# Altium footprint library parts.PCBLIB: 93 footprints (part 4 of 6)
Each footprint in its own frame and in the unit in brackets; x right, y up, seen from the top. Pads: shape width x height; smd on the part's side, far side on the other; paste and mask are expansions set on the pad; w line width, h text height; cw(c..) or ccw(c..) is an arc to the next point about the centre after c.
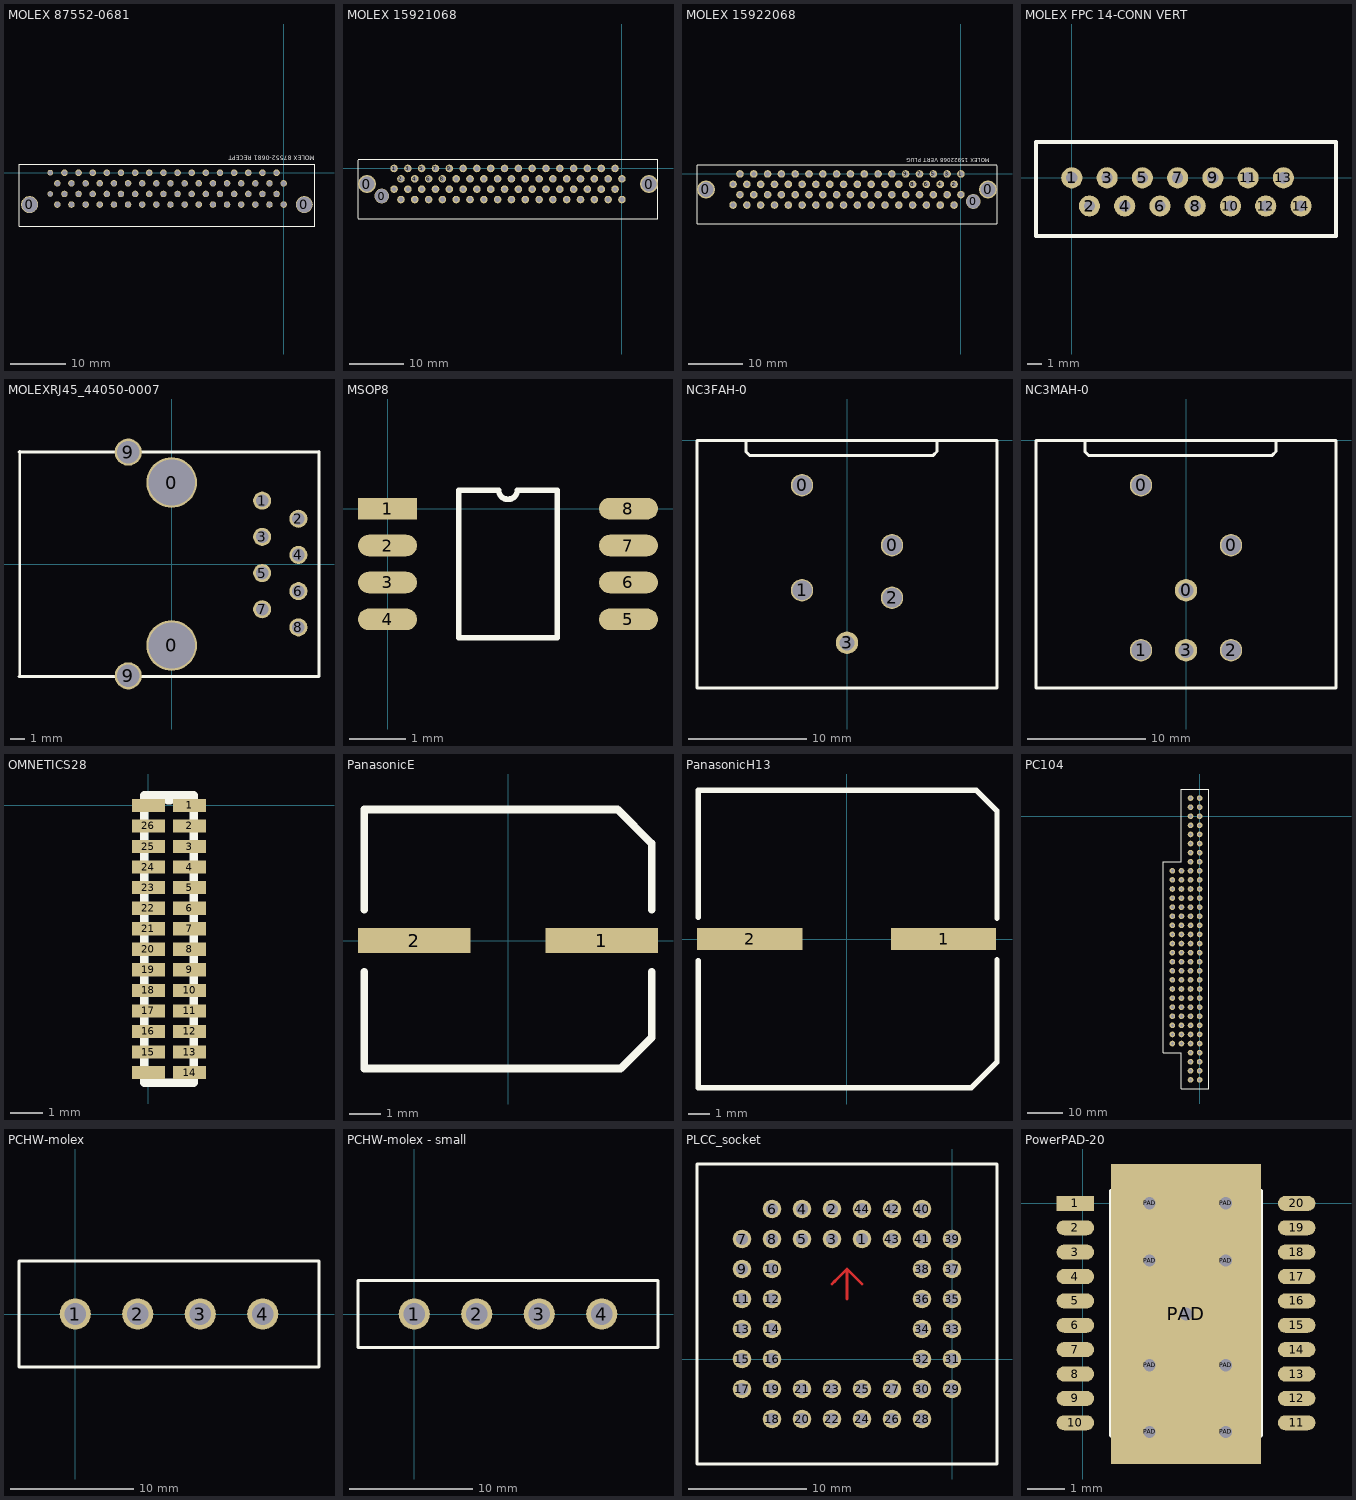
[diagram p3: the footprints below, top view; thin cyan lines are the x and y axes]

## MOLEX 87552-0681 [mil] "Moles 68-pin EBBI 50 mil right angle recepticle connector"
pads (70):
  round 120 hole 110: 0(-1796,-225) 0(146,-225)
  round 40 hole 35: 1(-1650,0) 35(-1650,-150)
  round 46 hole 35: 2(-1600,-75) 3(-1550,0) 4(-1500,-75) 5(-1450,0) 6(-1400,-75) 7(-1350,0) 8(-1300,-75) 9(-1250,0) 10(-1200,-75) 11(-1150,0) 12(-1100,-75) 13(-1050,0) 14(-1000,-75) 15(-950,0) 16(-900,-75) 17(-850,0) 18(-800,-75) 19(-750,0) 20(-700,-75) 21(-650,0) 22(-600,-75) 23(-550,0) 24(-500,-75) 25(-450,0) 26(-400,-75) 27(-350,0) 28(-300,-75) 29(-250,0) 30(-200,-75) 31(-150,0) 32(-100,-75) 33(-50,0) 34(0,-75) 36(-1600,-225) 37(-1550,-150) 38(-1500,-225) 39(-1450,-150) 40(-1400,-225) 41(-1350,-150) 42(-1300,-225) 43(-1250,-150) 44(-1200,-225) 45(-1150,-150) 46(-1100,-225) 47(-1050,-150) 48(-1000,-225) 49(-950,-150) 50(-900,-225) 51(-850,-150) 52(-800,-225) 53(-750,-150) 54(-700,-225) 55(-650,-150) 56(-600,-225) 57(-550,-150) 58(-500,-225) 59(-450,-150) 60(-400,-225) 61(-350,-150) 62(-300,-225) 63(-250,-150) 64(-200,-225) 65(-150,-150) 66(-100,-225) 67(-50,-150) 68(0,-225)
TopOverlay:
  lines w8: -1871,-380.12 221,-380.12 221,60 -1871,60 -1871,-380.12
  text "MOLEX 87552-0681 RECEPT" at 220,120 h30

## MOLEX 15921068 [mil]
pads (71):
  round 130 hole 110: 0(-1846,-112.5) 0(196,-112.5)
  round 106.3 hole 98.43: 0(-1739.37,-199.41)
  round 55 hole 35: 1(-1650,0) 2(-1600,-75) 3(-1550,0) 4(-1500,-75) 5(-1450,0) 6(-1400,-75) 7(-1350,0) 8(-1300,-75) 9(-1250,0) 10(-1200,-75) 11(-1150,0) 12(-1100,-75) 13(-1050,0) 14(-1000,-75) 15(-950,0) 16(-900,-75) 17(-850,0) 18(-800,-75) 19(-750,0) 20(-700,-75) 21(-650,0) 22(-600,-75) 23(-550,0) 24(-500,-75) 25(-450,0) 26(-400,-75) 27(-350,0) 28(-300,-75) 29(-250,0) 30(-200,-75) 31(-150,0) 32(-100,-75) 33(-50,0) 34(0,-75) 35(-1650,-150) 36(-1600,-225) 37(-1550,-150) 38(-1500,-225) 39(-1450,-150) 40(-1400,-225) 41(-1350,-150) 42(-1300,-225) 43(-1250,-150) 44(-1200,-225) 45(-1150,-150) 46(-1100,-225) 47(-1050,-150) 48(-1000,-225) 49(-950,-150) 50(-900,-225) 51(-850,-150) 52(-800,-225) 53(-750,-150) 54(-700,-225) 55(-650,-150) 56(-600,-225) 57(-550,-150) 58(-500,-225) 59(-450,-150) 60(-400,-225) 61(-350,-150) 62(-300,-225) 63(-250,-150) 64(-200,-225) 65(-150,-150) 66(-100,-225) 67(-50,-150) 68(0,-225)
TopOverlay:
  lines w8: -1911,-360 -1911,60 ; -1909.84,-362.2 259.45,-362.2 ; -1909.84,65 260.61,65 ; 260.08,-360 260.08,62.17

## MOLEX 15922068 [mil]
pads (71):
  round 130 hole 110: 0(-1846,-112.5) 0(196,-112.5)
  round 106.3 hole 98.43: 0(89.37,-199.41)
  round 55 hole 35: 1(0,0) 2(-50,-75) 3(-100,0) 4(-150,-75) 5(-200,0) 6(-250,-75) 7(-300,0) 8(-350,-75) 9(-400,0) 10(-450,-75) 11(-500,0) 12(-550,-75) 13(-600,0) 14(-650,-75) 15(-700,0) 16(-750,-75) 17(-800,0) 18(-850,-75) 19(-900,0) 20(-950,-75) 21(-1000,0) 22(-1050,-75) 23(-1100,0) 24(-1150,-75) 25(-1200,0) 26(-1250,-75) 27(-1300,0) 28(-1350,-75) 29(-1400,0) 30(-1450,-75) 31(-1500,0) 32(-1550,-75) 33(-1600,0) 34(-1650,-75) 35(0,-150) 36(-50,-225) 37(-100,-150) 38(-150,-225) 39(-200,-150) 40(-250,-225) 41(-300,-150) 42(-350,-225) 43(-400,-150) 44(-450,-225) 45(-500,-150) 46(-550,-225) 47(-600,-150) 48(-650,-225) 49(-700,-150) 50(-750,-225) 51(-800,-150) 52(-850,-225) 53(-900,-150) 54(-950,-225) 55(-1000,-150) 56(-1050,-225) 57(-1100,-150) 58(-1150,-225) 59(-1200,-150) 60(-1250,-225) 61(-1300,-150) 62(-1350,-225) 63(-1400,-150) 64(-1450,-225) 65(-1500,-150) 66(-1550,-225) 67(-1600,-150) 68(-1650,-225)
TopOverlay:
  lines w8: -1910.61,65 259.84,65 ; -1910.08,-360 -1910.08,62.16 ; -1909.45,-362.2 259.84,-362.2 ; 261,-360 261,60
  text "MOLEX 15922068 VERT PLUG" at 208.66,114.17 h30

## MOLEX FPC 14-CONN VERT [mm] "Molex FPC connector, ZIF, vertical, 1.25 mm pitch, 14 connector"
pads (14):
  round 1.5 hole 0.8: 1(0,0) 2(1.25,-2) 3(2.5,0) 4(3.75,-2) 5(5,0) 6(6.25,-2) 7(7.5,0) 8(8.75,-2) 9(10,0) 10(11.25,-2) 11(12.5,0) 12(13.75,-2) 13(15,0) 14(16.25,-2)
TopOverlay:
  lines w0.254: -2.54,-4.127 -2.54,2.54 -2.222,2.54 18.732,2.54 18.732,-4.127 -2.54,-4.127

## MOLEXRJ45_44050-0007 [mil]
pads (12):
  round 140 hole 128: 0(0,-225) 0(0,225)
  round 50 hole 35: 1(250,175) 2(350,125) 3(250,75) 4(350,25) 5(250,-25) 6(350,-75) 7(250,-125) 8(350,-175)
  round 75 hole 62: 9(-120,-309) 9(-120,309)
TopOverlay:
  lines w8: -422,-311 407,-311 407,311 ; -422,310 407,310 ; -420,-311 -420,311

## MSOP8 [mm]
pads (8):
  rect 1.04x0.38 smd: 1(0,0)
  oval 1.04x0.38 smd: 2(0,-0.65) 3(0,-1.3) 4(0,-1.95) 5(4.24,-1.95) 6(4.24,-1.3) 7(4.24,-0.65) 8(4.24,0)
TopOverlay:
  lines w0.1: 1.255,-2.275 2.985,-2.275 2.985,0.325 2.282,0.325 cw(c2.12,0.325) 1.957,0.325 1.255,0.325 1.255,-2.275

## NC3FAH-0 [mil] "Neutrik 3 pole female XLR receptacle, plastic housing, horizontal PCB mount."
pads (5):
  round 75 hole 65: 0(-150,-150) 0(150,-350) 1(-150,-500) 2(150,-525)
  round 75 hole 50: 3(0,-675)
TopOverlay:
  lines w10: -337.5,0 -337.5,-37.5 -325,-50 287.5,-50 300,-37.5 300,0 ; -500,-825 -500,0 500,0 500,-825 -500,-825

## NC3MAH-0 [mil] "Neutrik 3 pole male XLR receptacle, plastic housing, horizontal PCB mount."
pads (6):
  round 75 hole 65: 0(-150,-150) 0(150,-350) 1(-150,-700) 2(150,-700)
  round 75 hole 50: 0(0,-500) 3(0,-700)
TopOverlay:
  lines w10: -337.5,0 -337.5,-37.5 -325,-50 287.5,-50 300,-37.5 300,0 ; -500,-825 500,-825 500,0 -500,0 -500,-825

## OMNETICS28 [mil]
pads (28):
  rect 40x16 smd: 1(50,0) 2(50,-25) 3(50,-50) 4(50,-75) 5(50,-100) 6(50,-125) 7(50,-150) 8(50,-175) 9(50,-200) 10(50,-225) 11(50,-250) 12(50,-275) 13(50,-300) 14(50,-325) 15(0,-300) 16(0,-275) 17(0,-250) 18(0,-225) 19(0,-200) 20(0,-175) 21(0,-150) 22(0,-125) 23(0,-100) 24(0,-75) 25(0,-50) 26(0,-25) ""(0,-325) ""(0,0)
TopOverlay:
  lines w10: -5,-337.5 -5,12.5 31.25,12.5 cw(c25,12.5) 18.75,12.5 55,12.5 55,-337.5 -5,-337.5

## PanasonicE [mm]
pads (2):
  rect 3.6x0.8 smd: 1(3,0) 2(-3,0)
TopOverlay:
  lines w0.254: -4.6,-1 -4.6,-4.1 3.6,-4.1 4.6,-3.1 4.6,-1 ; -4.6,1 -4.6,4.2 3.5,4.2 4.6,3.1 4.6,1

## PanasonicH13 [mm]
pads (2):
  rect 4.9x1 smd: 1(4.5,0) 2(-4.5,0)
TopOverlay:
  lines w0.254: -6.9,-1 -6.9,-6.9 5.8,-6.9 ; -6.9,1 -6.9,6.9 6.032,6.9 6.985,5.947 6.985,0.953 ; 5.397,-6.9 5.8,-6.9 ; 6.985,-0.953 6.985,-5.715 5.8,-6.9

## PC104 [mil]
pads (104):
  round 62 hole 35: A1(0,200) A2(0,100) A3(0,0) A4(0,-100) A5(0,-200) A6(0,-300) A7(0,-400) A8(0,-500) A9(0,-600) A10(0,-700) A11(0,-800) A12(0,-900) A13(0,-1000) A14(0,-1100) A15(0,-1200) A16(0,-1300) A17(0,-1400) A18(0,-1500) A19(0,-1600) A20(0,-1700) A21(0,-1800) A22(0,-1900) A23(0,-2000) A24(0,-2100) A25(0,-2200) A26(0,-2300) A27(0,-2400) A28(0,-2500) A29(0,-2600) A30(0,-2700) A31(0,-2800) A32(0,-2900) B1(-100,200) B2(-100,100) B3(-100,0) B4(-100,-100) B5(-100,-200) B6(-100,-300) B7(-100,-400) B8(-100,-500) B9(-100,-600) B10(-100,-700) B11(-100,-800) B12(-100,-900) B13(-100,-1000) B14(-100,-1100) B15(-100,-1200) B16(-100,-1300) B17(-100,-1400) B18(-100,-1500) B19(-100,-1600) B20(-100,-1700) B21(-100,-1800) B22(-100,-1900) B23(-100,-2000) B24(-100,-2100) B25(-100,-2200) B26(-100,-2300) B27(-100,-2400) B28(-100,-2500) B29(-100,-2600) B30(-100,-2700) B31(-100,-2800) B32(-100,-2900) C0(-200,-600) C1(-200,-700) C2(-200,-800) C3(-200,-900) C4(-200,-1000) C5(-200,-1100) C6(-200,-1200) C7(-200,-1300) C8(-200,-1400) C9(-200,-1500) C10(-200,-1600) C11(-200,-1700) C12(-200,-1800) C13(-200,-1900) C14(-200,-2000) C15(-200,-2100) C16(-200,-2200) C17(-200,-2300) C18(-200,-2400) C19(-200,-2500) D0(-300,-600) D1(-300,-700) D2(-300,-800) D3(-300,-900) D4(-300,-1000) D5(-300,-1100) D6(-300,-1200) D7(-300,-1300) D8(-300,-1400) D9(-300,-1500) D10(-300,-1600) D11(-300,-1700) D12(-300,-1800) D13(-300,-1900) D14(-300,-2000) D15(-300,-2100) D16(-300,-2200) D17(-300,-2300) D18(-300,-2400) D19(-300,-2500)
TopOverlay:
  lines w10: -400,-2600 -400,-500 -200,-500 -200,300 100,300 100,-3000 -200,-3000 -200,-2600 -400,-2600

## PCHW-molex [mil] "PC hardware molex connector, like that on hard drives. Molex part 15-24-4157"
pads (4):
  round 100 hole 70: 1(0,0) 2(200,0) 3(400,0) 4(600,0)
TopOverlay:
  lines w10: -180,-170 -180,170 780,170 780,-170 -180,-170

## PCHW-molex - small [mil]
pads (4):
  round 100 hole 70: 1(0,0) 2(200,0) 3(400,0) 4(600,0)
TopOverlay:
  lines w10: -180,-107.5 -180,107.5 780,107.5 780,-107.5 -180,-107.5

## PLCC_socket [mil]
pads (44):
  round 62 hole 40: 1(-300,400) 2(-400,500) 3(-400,400) 4(-500,500) 5(-500,400) 6(-600,500) 7(-700,400) 8(-600,400) 9(-700,300) 10(-600,300) 11(-700,200) 12(-600,200) 13(-700,100) 14(-600,100) 15(-700,0) 16(-600,0) 17(-700,-100) 18(-600,-200) 19(-600,-100) 20(-500,-200) 21(-500,-100) 22(-400,-200) 23(-400,-100) 24(-300,-200) 25(-300,-100) 26(-200,-200) 27(-200,-100) 28(-100,-200) 29(0,-100) 30(-100,-100) 31(0,0) 32(-100,0) 33(0,100) 34(-100,100) 35(0,200) 36(-100,200) 37(0,300) 38(-100,300) 39(0,400) 40(-100,500) 41(-100,400) 42(-200,500) 43(-200,400) 44(-300,500)
TopLayer:
  lines w10: -389.06,260.94 -400,250 -350,300 ; -350,200 -350,300 ; -300,250 -350,300
TopOverlay:
  lines w10: -850,-350 -850,650 150,650 150,-350 -850,-350

## PowerPAD-20 [mm] "TI really tiny PowerPad"
pads (29):
  rect 1x0.4 smd: 1(-0.2,0)
  oval 1x0.4 smd: 2(-0.2,-0.65) 3(-0.2,-1.3) 4(-0.2,-1.95) 5(-0.2,-2.6) 6(-0.2,-3.25) 7(-0.2,-3.9) 8(-0.2,-4.55) 9(-0.2,-5.2) 10(-0.2,-5.85) 11(5.7,-5.85) 12(5.7,-5.2) 13(5.7,-4.55) 14(5.7,-3.9) 15(5.7,-3.25) 16(5.7,-2.6) 17(5.7,-1.95) 18(5.7,-1.3) 19(5.7,-0.65) 20(5.7,0)
  round 0.4 on Top hole 0.33: PAD(1.778,-6.096) PAD(1.778,-4.318) PAD(1.778,-1.524) PAD(1.778,0) PAD(3.81,-6.096) PAD(3.81,-4.318) PAD(3.81,-1.524) PAD(3.81,0)
  rect 4x8 on Top hole 0.343 mask-2: PAD(2.75,-2.95)
TopOverlay:
  lines w0.15: 0.777,-6.175 4.723,-6.175 4.723,0.325 2.912,0.325 cw(c2.75,0.325) 2.588,0.325 0.777,0.325 0.777,-6.175